# EAGLE library part TEMPSENSOR (library PPMK_MSP430FR6989)
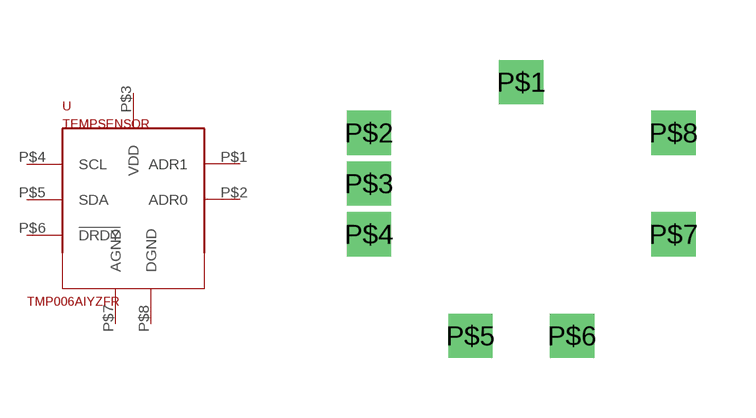
[diagram p9: symbol with the pads of TEMPSENSOR; footprint TEMPSENSOR]

Designator prefix -

## TEMPSENSOR  [TEMPSENSOR]
P$1  ADR1
P$2  ADR0
P$3  VDD
P$4  SCL
P$5  SDA
P$6  !DRDY
P$7  AGND
P$8  DGND

## Footprint TEMPSENSOR (pad centres in mm)
drill 0.6 square: P$1 -2.54,7.62; P$2 -6.35,6.35; P$3 -6.35,5.08; P$4 -6.35,3.81; P$5 -3.81,1.27; P$6 -1.27,1.27; P$7 1.27,3.81; P$8 1.27,6.35